# Altium schematic symbol library SCH - RF - AMPLIFIER - MINI-CIRCUITS PMA3-83MP+.SCHLIB: 1 symbol
Pins are listed as number, name and electrical type; pins without a type are passive.

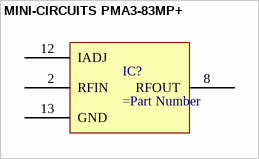
[diagram p0: symbol MINI-CIRCUITS PMA3-83MP+]

## MINI-CIRCUITS PMA3-83MP+
designator IC?
pins: 2 RFIN, 8 RFOUT, 12 IADJ, 13 GND